# Altium footprint library 0402R.PcbLib: 1 footprints
Each footprint in its own frame and in the unit in brackets; x right, y up, seen from the top. Pads: shape width x height; smd on the part's side, far side on the other; paste and mask are expansions set on the pad; w line width, h text height; cw(c..) or ccw(c..) is an arc to the next point about the centre after c.
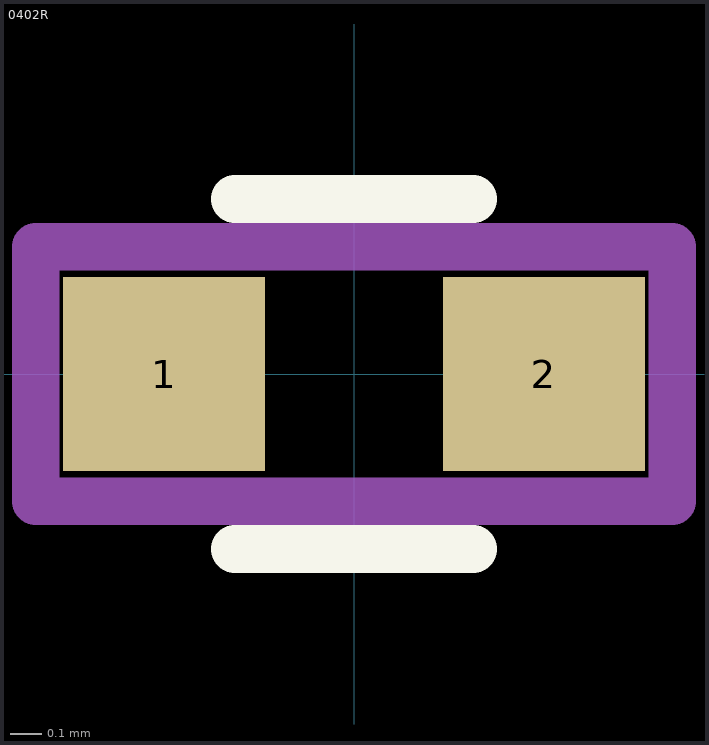
[diagram p0: the footprint, top view; thin cyan lines are the x and y axes]

## 0402R [mm]
height 0.5
pads (2):
  rect 0.635x0.61 smd: 1(-0.597,0) 2(0.597,0)
Top Overlay:
  lines w0.15: -0.375,-0.55 0.375,-0.55 ; -0.375,0.55 0.375,0.55
Mechanical 13 (Mech13):
  lines w0.15: -1,-0.4 -1,0.4 1,0.4 1,-0.4 -1,-0.4
  text ".Designator" at -1.075,0.8 h1
3D body "0402R.stp": height 0.4, standoff 0, extent -0.5,-0.25 0.5,0.25